# Altium footprint library SnapEDApcb.PcbLib: 1 footprints
Each footprint in its own frame and in the unit in brackets; x right, y up, seen from the top. Pads: shape width x height; smd on the part's side, far side on the other; paste and mask are expansions set on the pad; w line width, h text height; cw(c..) or ccw(c..) is an arc to the next point about the centre after c.
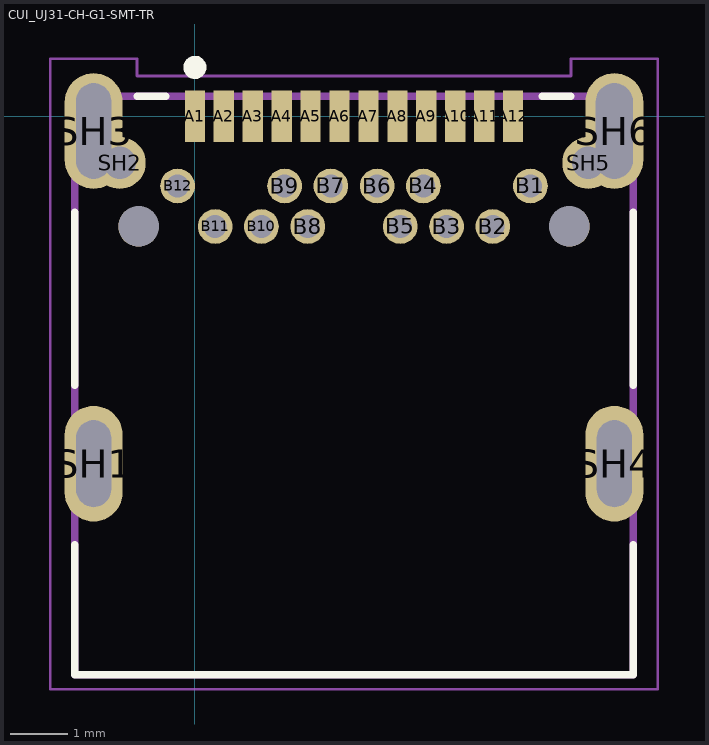
[diagram p0: the footprint, top view; thin cyan lines are the x and y axes]

## CUI_UJ31-CH-G1-SMT-TR [mm]
pads (32):
  rect 0.35x0.89 smd: A1(0,0) A2(0.5,0) A3(1,0) A4(1.5,0) A5(2,0) A6(2.5,0) A7(3,0) A8(3.5,0) A9(4,0) A10(4.5,0) A11(5,0) A12(5.5,0)
  round 0.6 hole 0.4: B1(5.8,-1.205) B2(5.15,-1.905) B3(4.35,-1.905) B4(3.95,-1.205) B5(3.55,-1.905) B6(3.15,-1.205) B7(2.35,-1.205) B8(1.95,-1.905) B9(1.55,-1.205) B10(1.15,-1.905) B11(0.35,-1.905) B12(-0.3,-1.205)
  oval 1x2 hole 0.6 slot 1.5 at 90 deg: SH1(-1.75,-6.005) SH4(7.25,-6.005)
  round 0.9 hole 0.559: SH2(-1.3,-0.805) SH5(6.8,-0.805)
  oval 1x2 hole 0.6 slot 1.651 at 90 deg: SH3(-1.75,-0.255)
  oval 1x2 hole 0.635 slot 1.651 at 90 deg: SH6(7.25,-0.255)
  round 0.7 hole 0.7 unplated: ""(-0.975,-1.905) ""(6.475,-1.905)
Top Overlay:
  circle w0.2: c0,0.845 r0.1
  lines w0.127: -2.075,-7.405 -2.075,-9.655 7.575,-9.655 7.575,-7.405 ; -2.075,-4.655 -2.075,-1.655 ; -1,0.345 -0.5,0.345 ; 6,0.345 6.5,0.345 ; 7.575,-4.655 7.575,-1.655
Mechanical 1:
  lines w0: -2.05,-0.805 -2.05,-0.055 cw(c-1.75,-0.055) -1.45,-0.055 -1.45,-0.555 -1.3,-0.555 cw(c-1.3,-0.805) -1.3,-1.055 -1.75,-1.055 ; -2.05,-0.804 ccw(c-1.775,-0.78) -1.751,-1.055 ; 7.55,-0.805 7.55,-0.055 ccw(c7.25,-0.055) 6.95,-0.055 6.95,-0.555 6.8,-0.555 ccw(c6.8,-0.805) 6.8,-1.055 7.25,-1.055 ccw(c7.275,-0.78) 7.55,-0.804
Mechanical 13:
  lines w0.127: -2.075,-9.655 -2.075,0.345 7.575,0.345 7.575,-9.655 -2.075,-9.655
Mechanical 15:
  lines w0.05: -2.5,-9.905 -2.5,0.995 -1,0.995 -1,0.695 6.5,0.695 6.5,0.995 8,0.995 8,-9.905 -2.5,-9.905